# Altium footprint library common standard footprint.PcbLib: 18 footprints (part 2 of 2)
Each footprint in its own frame and in the unit in brackets; x right, y up, seen from the top. Pads: shape width x height; smd on the part's side, far side on the other; paste and mask are expansions set on the pad; w line width, h text height; cw(c..) or ccw(c..) is an arc to the next point about the centre after c.
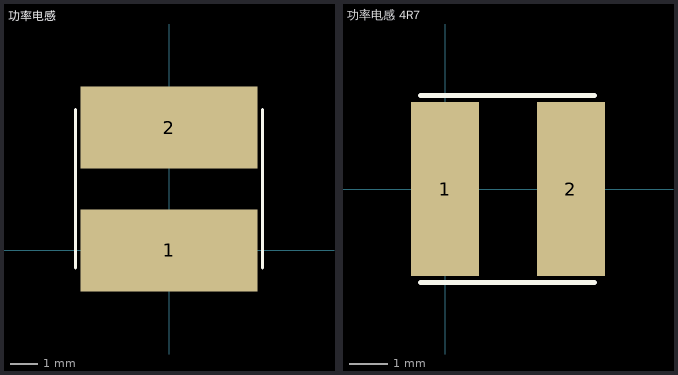
[diagram p1: the footprints below, top view; thin cyan lines are the x and y axes]

## 功率电感 [mm] "5.8*5.2*4.5"
height 4.5
pads (2):
  rect 6.5x3 smd: 1(0,0) 2(0,4.5)
Top Overlay:
  lines w0.127: -3.429,-0.635 -3.429,5.165 ; 3.429,-0.635 3.429,5.165

## 功率电感 4R7 [mm] "4.5*4*3.2"
pads (2):
  rect 1.75x4.5 smd: 1(0,0) 2(3.25,0)
Top Overlay:
  lines w0.127: -0.635,-2.413 3.865,-2.413 ; -0.635,2.413 3.865,2.413